# Altium footprint library Master.PcbLib: 37 footprints (part 3 of 3)
Each footprint in its own frame and in the unit in brackets; x right, y up, seen from the top. Pads: shape width x height; smd on the part's side, far side on the other; paste and mask are expansions set on the pad; w line width, h text height; cw(c..) or ccw(c..) is an arc to the next point about the centre after c.
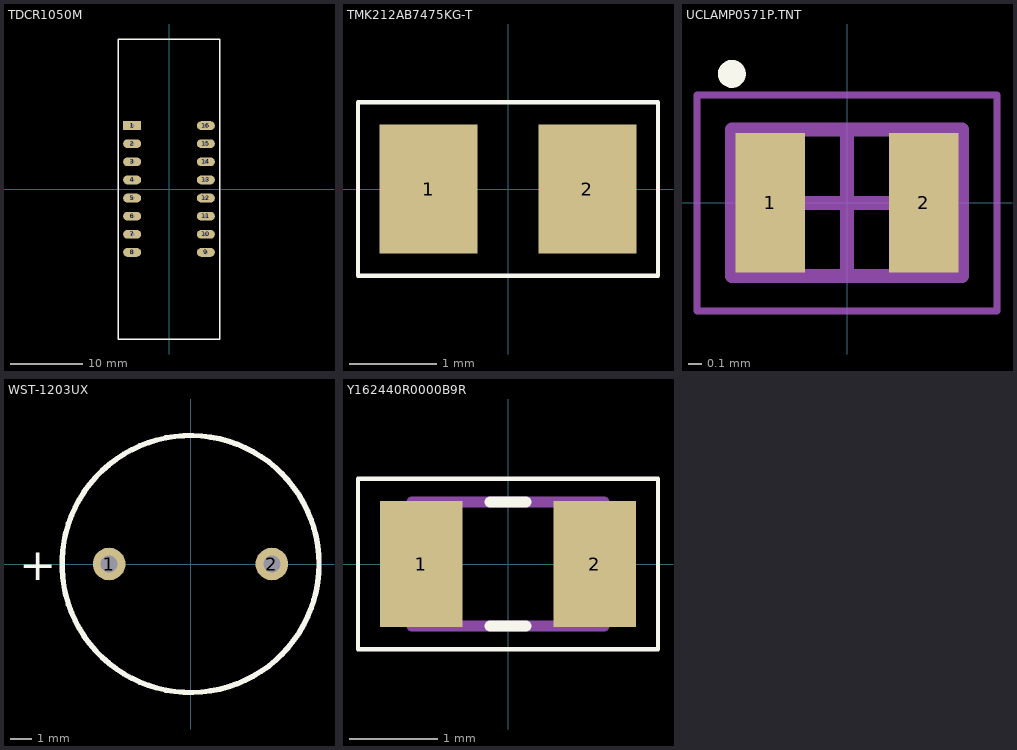
[diagram p2: the footprints below, top view; thin cyan lines are the x and y axes]

## TDCR1050M [mm] "DISP 7SEG 0.39\" QUAD RED 16DIP"
pads (16):
  rect 2.5x1.2 hole 0.6: 1(-5.08,8.75)
  oval 2.5x1.2 hole 0.6: 2(-5.08,6.25) 3(-5.08,3.75) 4(-5.08,1.25) 5(-5.08,-1.25) 6(-5.08,-3.75) 7(-5.08,-6.25) 8(-5.08,-8.75) 9(5.08,-8.75) 10(5.08,-6.25) 11(5.08,-3.75) 12(5.08,-1.25) 13(5.08,1.25) 14(5.08,3.75) 15(5.08,6.25) 16(5.08,8.75)
Top Overlay:
  lines w0.2: -7,-20.7 -7,20.7 7,20.7 7,-20.7 -7,-20.7
3D body "TDCR1050M.step": height 7, standoff -3.5, extent -6.4,-20.1 6.4,20.1

## TMK212AB7475KG-T [mm] "CAP CER 4.7UF 25V X7R 0805"
pads (2):
  rect 1.12x1.48 smd: 1(-0.907,0) 2(0.907,0)
Top Overlay:
  lines w0.05: -1.715,-0.99 -1.715,0.99 1.715,0.99 1.715,-0.99 -1.715,-0.99
3D body "TMK212AB7475KG-T.STEP": height 1.24, standoff -0.01, extent -1,-0.7 1,0.7

## UCLAMP0571P.TNT [mm] "TVS DIODE 5V 15V SGP1610N2"
height 0.55
pads (2):
  rect 0.5x1 smd: 1(-0.55,0) 2(0.55,0)
Top Overlay:
  circle w0.1: c-0.825,0.925 r0.05
Mechanical 13:
  lines w0.1: -0.825,-0.525 -0.825,0.525 0.825,0.525 0.825,-0.525 -0.825,-0.525
Mechanical 15:
  lines w0.05: -1.075,-0.775 -1.075,0.775 1.075,0.775 1.075,-0.775 -1.075,-0.775
  lines w0.1: -0.5,0 0.5,0 ; 0,-0.5 0,0.5
3D body "DFN110P160X55-2N.step": height 0.55, standoff 0, extent -0.825,-0.525 0.825,0.525

## WST-1203UX [mm] "AUDIO MAGNETIC XDCR 2-5V TH"
pads (2):
  round 1.524 hole 0.8: 1(-3.8,0) 2(3.8,0)
Top Overlay:
  circle w0.254: c0,0 r6
  text "+" at -8.008,-0.762 h1.52
3D body "WST-1203UX.step": height 8.15, standoff -6.35, extent -6,-6 6,6

## Y162440R0000B9R [mm] "RES SMD 40 OHM 0.1% 1/5W 0805"
pads (2):
  rect 0.93x1.42 smd: 1(-0.979,0) 2(0.979,0)
Top Overlay:
  lines w0.05: -1.692,-0.962 -1.692,0.962 1.692,0.962 1.692,-0.962 -1.692,-0.962
  lines w0.127: -0.2,-0.7 0.2,-0.7 ; -0.2,0.7 0.2,0.7
Mechanical 13:
  lines w0.127: -1.08,-0.7 -1.08,0.7 1.08,0.7 1.08,-0.7 -1.08,-0.7
3D body "Y162440R0000B9R.STEP": height 0.64, standoff 0, extent -1.015,-0.635 1.015,0.635